# Altium integrated library TI Amplifiers and Linear Special Function Amplifier.IntLib: 708 symbols (part 37 of 47)
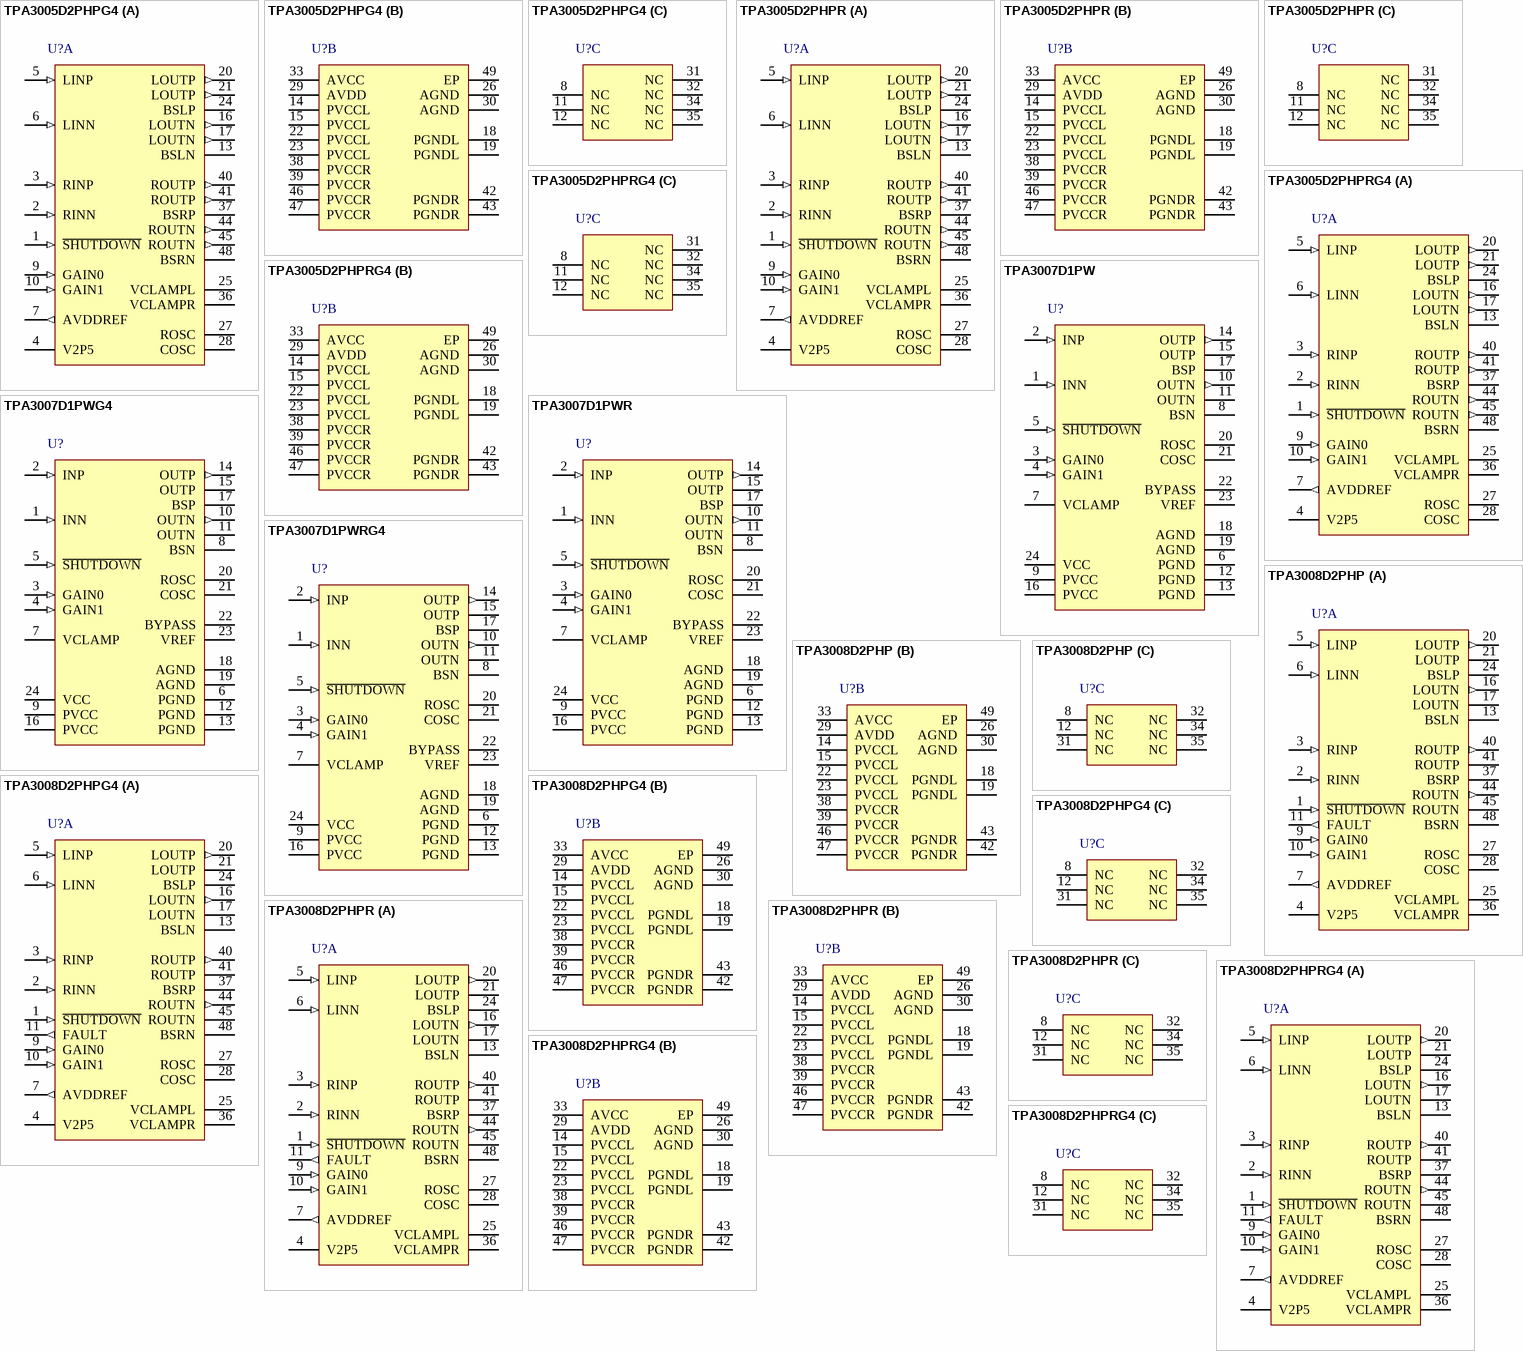
[diagram p75: symbols TPA3005D2PHPG4 to TPA3008D2PHPRG4]

## TPA3008D2PHPG4
designator U?
10 W Stereo Class-D Audio Power Amplifier, -40 to 85 degC, 48-pin QFP (PHP48), Green (RoHS & no Sb/Br); Manufacturer: Texas Instruments; PartNumber: TPA3008D2PHPG4; Analog Supply Max [V]: 18; Analog Supply Min [V]: 8.5; Input Type: Analog; Max. Number of Speaker Outputs: 2; SubFamily: Mid/High-Power Amplifier; DatasheetVersion: SLOS435C; PackageVersion: 4146927/B, 08/2003; PackageReference: PHP48-4385X4385TP; PackageDescription: 48-Pin PowerPAD(TM) Plastic Quad Flatpack, Body 7 x 7 mm, Pitch 0.5 mm; Supplier 1: Digi-Key; Supplier Part Number 1: TPA3008D2PHPG4-ND; Supplier 2: Newark; Supplier Part Number 2: 54K1486; Supplier 3: Mouser; Supplier Part Number 3: 595-TPA3008D2PHPG4; Eco-Plan: Green (RoHS & no Sb/Br); Power Stage Supply Min(V): 8.5; Mounting Technology: Surface Mount; Code_JEDEC: MS-026; ComponentLink1Description: Manufacturer URL; ComponentLink1URL: http://www.ti.com/; ComponentLink2Description: Datasheet; ComponentLink2URL: http://www.ti.com/general/docs/lit/getliterature.tsp?genericPartNumber=TPA3008D2&fileType=pdf; ComponentLink3Description: Package Specification; ComponentLink3URL: http://www.ti.com/litv/pdf/mpdi001b
footprint TI-PHP48-4385X4385TP_N (QFP, 48-Leads, Body 7x7mm, Pitch 0.5mm, Thermal Pad 4.9x4.9mm, IPC Medium Density)
footprint TI-PHP48-4385X4385TP_L (QFP, 48-Leads, Body 7x7mm, Pitch 0.5mm, Thermal Pad 4.9x4.9mm, IPC High Density)
footprint TI-PHP48-4385X4385TP_M (QFP, 48-Leads, Body 7x7mm, Pitch 0.5mm, Thermal Pad 4.9x4.9mm, IPC Low Density)
part A pins: 1 ~{SHUTDOWN} (in) "Shutdown signal for IC (low = shutdown, high = operational). TTL logic levels with compliance to VCC.", 2 RINN (in) "Negative audio input for right channel", 3 RINP (in) "Positive audio input for right channel", 4 V2P5 "2.5-V Reference for analog cells.", 5 LINP (in) "Positive audio input for left channel", 6 LINN (in) "Negative audio input for left channel", 7 AVDDREF (out) "5-V Reference output-connect to gain setting resistor or directly to GAIN0, GAIN1.", 9 GAIN0 (in) "Gain select least significant bit. TTL logic levels with compliance to AVDD.", 10 GAIN1 (in) "Gain select most significant bit. TTL logic levels with compliance to AVDD.", 11 FAULT (out) "Short-circuit detect fault output. FAULT = high, short-circuit detected. F\A\U\L\T\ = low, normal operation. Status is reset when power is cycled or S\H\U\T\D\O\W\N\ is cycled.", 13 BSLN "Bootstrap I/O for left channel, negative high-side FET", 16 LOUTN (out) "Class-D 1/2-H-bridge negative output for left channel", 17 LOUTN "Class-D 1/2-H-bridge negative output for left channel", 20 LOUTP (out) "Class-D 1/2-H-bridge positive output for left channel", 21 LOUTP "Class-D 1/2-H-bridge positive output for left channel", 24 BSLP "Bootstrap I/O for left channel, positive high-side FET", 25 VCLAMPL "Internally generated voltage supply for left channel bootstrap capacitors.", 27 ROSC "I/O current setting resistor for ramp generator.", 28 COSC "I/O for charge/discharging currents onto capacitor for ramp generator.", 36 VCLAMPR "Internally generated voltage supply for right channel bootstrap capacitors.", 37 BSRP "Bootstrap I/O for right channel, positive high-side FET", 40 ROUTP (out) "Class-D 1/2-H-bridge positive output for right channel", 41 ROUTP "Class-D 1/2-H-bridge positive output for right channel", 44 ROUTN (out) "Class-D 1/2-H-bridge negative output for right channel", 45 ROUTN "Class-D 1/2-H-bridge negative output for right channel", 48 BSRN "Bootstrap I/O for right channel, negative high-side FET"
part B pins: 14 PVCCL (power) "Power supply for left channel H-bridge (internally connected to pins 22 and 23), not connected to PVCCR or AVCC.", 15 PVCCL (power) "Power supply for left channel H-bridge (internally connected to pins 22 and 23), not connected to PVCCR or AVCC.", 18 PGNDL (power) "Power ground for left channel H-bridge", 19 PGNDL (power) "Power ground for left channel H-bridge", 22 PVCCL (power) "Power supply for left channel H-bridge (internally connected to pins 14 and 15), not connected to PVCCR or AVCC.", 23 PVCCL (power) "Power supply for left channel H-bridge (internally connected to pins 14 and 15), not connected to PVCCR or AVCC.", 26 AGND (power) "Analog ground for digital/analog cells in core", 29 AVDD (power) "5-V Regulated output for use by internal cells and GAIN0, GAIN1 pins only. Not specified for driving other external circuitry.", 30 AGND (power) "Analog ground for digital/analog cells in core", 33 AVCC (power) "High-voltage analog power supply, not connected internally to PVCCR or PVCCL", 38 PVCCR (power) "Power supply for right channel H-bridge (internally connected to pins 46 and 47), not connected to PVCCL or AVCC.", 39 PVCCR (power) "Power supply for right channel H-bridge (internally connected to pins 46 and 47), not connected to PVCCL or AVCC.", 42 PGNDR (power) "Power ground for right channel H-bridge", 43 PGNDR (power) "Power ground for right channel H-bridge", 46 PVCCR (power) "Power supply for right channel H-bridge (internally connected to pins 38 and 39), not connected to PVCCL or AVCC.", 47 PVCCR (power) "Power supply for right channel H-bridge (internally connected to pins 38 and 39), not connected to PVCCL or AVCC.", 49 EP (power) "Connect to AGND and PGND-should be the center point for both grounds. Internal resistive connection to AGND."
part C pins: 8 NC "No internal connection", 12 NC "No internal connection", 31 NC "No internal connection", 32 NC "No internal connection", 34 NC "No internal connection", 35 NC "No internal connection"

## TPA3008D2PHPR
designator U?
10 W Stereo Class-D Audio Power Amplifier, -40 to 85 degC, 48-pin QFP (PHP48), Green (RoHS & no Sb/Br); Manufacturer: Texas Instruments; PartNumber: TPA3008D2PHPR; Analog Supply Max [V]: 18; Analog Supply Min [V]: 8.5; Input Type: Analog; Max. Number of Speaker Outputs: 2; SubFamily: Mid/High-Power Amplifier; DatasheetVersion: SLOS435C; PackageVersion: 4146927/B, 08/2003; PackageReference: PHP48-4385X4385TP; PackageDescription: 48-Pin PowerPAD(TM) Plastic Quad Flatpack, Body 7 x 7 mm, Pitch 0.5 mm; Supplier 1: Digi-Key; Supplier Part Number 1: TPA3008D2PHPR-ND; Supplier 2: Mouser; Supplier Part Number 2: 595-TPA3008D2PHPR; Eco-Plan: Green (RoHS & no Sb/Br); Power Stage Supply Min(V): 8.5; Mounting Technology: Surface Mount; Code_JEDEC: MS-026; ComponentLink1Description: Manufacturer URL; ComponentLink1URL: http://www.ti.com/; ComponentLink2Description: Datasheet; ComponentLink2URL: http://www.ti.com/general/docs/lit/getliterature.tsp?genericPartNumber=TPA3008D2&fileType=pdf; ComponentLink3Description: Package Specification; ComponentLink3URL: http://www.ti.com/litv/pdf/mpdi001b
footprint TI-PHP48-4385X4385TP_N (QFP, 48-Leads, Body 7x7mm, Pitch 0.5mm, Thermal Pad 4.9x4.9mm, IPC Medium Density)
footprint TI-PHP48-4385X4385TP_L (QFP, 48-Leads, Body 7x7mm, Pitch 0.5mm, Thermal Pad 4.9x4.9mm, IPC High Density)
footprint TI-PHP48-4385X4385TP_M (QFP, 48-Leads, Body 7x7mm, Pitch 0.5mm, Thermal Pad 4.9x4.9mm, IPC Low Density)
part A pins: 1 ~{SHUTDOWN} (in) "Shutdown signal for IC (low = shutdown, high = operational). TTL logic levels with compliance to VCC.", 2 RINN (in) "Negative audio input for right channel", 3 RINP (in) "Positive audio input for right channel", 4 V2P5 "2.5-V Reference for analog cells.", 5 LINP (in) "Positive audio input for left channel", 6 LINN (in) "Negative audio input for left channel", 7 AVDDREF (out) "5-V Reference output-connect to gain setting resistor or directly to GAIN0, GAIN1.", 9 GAIN0 (in) "Gain select least significant bit. TTL logic levels with compliance to AVDD.", 10 GAIN1 (in) "Gain select most significant bit. TTL logic levels with compliance to AVDD.", 11 FAULT (out) "Short-circuit detect fault output. FAULT = high, short-circuit detected. F\A\U\L\T\ = low, normal operation. Status is reset when power is cycled or S\H\U\T\D\O\W\N\ is cycled.", 13 BSLN "Bootstrap I/O for left channel, negative high-side FET", 16 LOUTN (out) "Class-D 1/2-H-bridge negative output for left channel", 17 LOUTN "Class-D 1/2-H-bridge negative output for left channel", 20 LOUTP (out) "Class-D 1/2-H-bridge positive output for left channel", 21 LOUTP "Class-D 1/2-H-bridge positive output for left channel", 24 BSLP "Bootstrap I/O for left channel, positive high-side FET", 25 VCLAMPL "Internally generated voltage supply for left channel bootstrap capacitors.", 27 ROSC "I/O current setting resistor for ramp generator.", 28 COSC "I/O for charge/discharging currents onto capacitor for ramp generator.", 36 VCLAMPR "Internally generated voltage supply for right channel bootstrap capacitors.", 37 BSRP "Bootstrap I/O for right channel, positive high-side FET", 40 ROUTP (out) "Class-D 1/2-H-bridge positive output for right channel", 41 ROUTP "Class-D 1/2-H-bridge positive output for right channel", 44 ROUTN (out) "Class-D 1/2-H-bridge negative output for right channel", 45 ROUTN "Class-D 1/2-H-bridge negative output for right channel", 48 BSRN "Bootstrap I/O for right channel, negative high-side FET"
part B pins: 14 PVCCL (power) "Power supply for left channel H-bridge (internally connected to pins 22 and 23), not connected to PVCCR or AVCC.", 15 PVCCL (power) "Power supply for left channel H-bridge (internally connected to pins 22 and 23), not connected to PVCCR or AVCC.", 18 PGNDL (power) "Power ground for left channel H-bridge", 19 PGNDL (power) "Power ground for left channel H-bridge", 22 PVCCL (power) "Power supply for left channel H-bridge (internally connected to pins 14 and 15), not connected to PVCCR or AVCC.", 23 PVCCL (power) "Power supply for left channel H-bridge (internally connected to pins 14 and 15), not connected to PVCCR or AVCC.", 26 AGND (power) "Analog ground for digital/analog cells in core", 29 AVDD (power) "5-V Regulated output for use by internal cells and GAIN0, GAIN1 pins only. Not specified for driving other external circuitry.", 30 AGND (power) "Analog ground for digital/analog cells in core", 33 AVCC (power) "High-voltage analog power supply, not connected internally to PVCCR or PVCCL", 38 PVCCR (power) "Power supply for right channel H-bridge (internally connected to pins 46 and 47), not connected to PVCCL or AVCC.", 39 PVCCR (power) "Power supply for right channel H-bridge (internally connected to pins 46 and 47), not connected to PVCCL or AVCC.", 42 PGNDR (power) "Power ground for right channel H-bridge", 43 PGNDR (power) "Power ground for right channel H-bridge", 46 PVCCR (power) "Power supply for right channel H-bridge (internally connected to pins 38 and 39), not connected to PVCCL or AVCC.", 47 PVCCR (power) "Power supply for right channel H-bridge (internally connected to pins 38 and 39), not connected to PVCCL or AVCC.", 49 EP (power) "Connect to AGND and PGND-should be the center point for both grounds. Internal resistive connection to AGND."
part C pins: 8 NC "No internal connection", 12 NC "No internal connection", 31 NC "No internal connection", 32 NC "No internal connection", 34 NC "No internal connection", 35 NC "No internal connection"

## TPA3008D2PHPRG4
designator U?
10 W Stereo Class-D Audio Power Amplifier, -40 to 85 degC, 48-pin QFP (PHP48), Green (RoHS & no Sb/Br); Manufacturer: Texas Instruments; PartNumber: TPA3008D2PHPRG4; Analog Supply Max [V]: 18; Analog Supply Min [V]: 8.5; Input Type: Analog; Max. Number of Speaker Outputs: 2; SubFamily: Mid/High-Power Amplifier; DatasheetVersion: SLOS435C; PackageVersion: 4146927/B, 08/2003; PackageReference: PHP48-4385X4385TP; PackageDescription: 48-Pin PowerPAD(TM) Plastic Quad Flatpack, Body 7 x 7 mm, Pitch 0.5 mm; Supplier 1: Digi-Key; Supplier Part Number 1: TPA3008D2PHPRG4-ND; Supplier 2: Newark; Supplier Part Number 2: 71J8059; Supplier 3: Mouser; Supplier Part Number 3: 595-TPA3008D2PHPRG4; Eco-Plan: Green (RoHS & no Sb/Br); Power Stage Supply Min(V): 8.5; Mounting Technology: Surface Mount; Code_JEDEC: MS-026; ComponentLink1Description: Manufacturer URL; ComponentLink1URL: http://www.ti.com/; ComponentLink2Description: Datasheet; ComponentLink2URL: http://www.ti.com/general/docs/lit/getliterature.tsp?genericPartNumber=TPA3008D2&fileType=pdf; ComponentLink3Description: Package Specification; ComponentLink3URL: http://www.ti.com/litv/pdf/mpdi001b
footprint TI-PHP48-4385X4385TP_N (QFP, 48-Leads, Body 7x7mm, Pitch 0.5mm, Thermal Pad 4.9x4.9mm, IPC Medium Density)
footprint TI-PHP48-4385X4385TP_L (QFP, 48-Leads, Body 7x7mm, Pitch 0.5mm, Thermal Pad 4.9x4.9mm, IPC High Density)
footprint TI-PHP48-4385X4385TP_M (QFP, 48-Leads, Body 7x7mm, Pitch 0.5mm, Thermal Pad 4.9x4.9mm, IPC Low Density)
part A pins: 1 ~{SHUTDOWN} (in) "Shutdown signal for IC (low = shutdown, high = operational). TTL logic levels with compliance to VCC.", 2 RINN (in) "Negative audio input for right channel", 3 RINP (in) "Positive audio input for right channel", 4 V2P5 "2.5-V Reference for analog cells.", 5 LINP (in) "Positive audio input for left channel", 6 LINN (in) "Negative audio input for left channel", 7 AVDDREF (out) "5-V Reference output-connect to gain setting resistor or directly to GAIN0, GAIN1.", 9 GAIN0 (in) "Gain select least significant bit. TTL logic levels with compliance to AVDD.", 10 GAIN1 (in) "Gain select most significant bit. TTL logic levels with compliance to AVDD.", 11 FAULT (out) "Short-circuit detect fault output. FAULT = high, short-circuit detected. F\A\U\L\T\ = low, normal operation. Status is reset when power is cycled or S\H\U\T\D\O\W\N\ is cycled.", 13 BSLN "Bootstrap I/O for left channel, negative high-side FET", 16 LOUTN (out) "Class-D 1/2-H-bridge negative output for left channel", 17 LOUTN "Class-D 1/2-H-bridge negative output for left channel", 20 LOUTP (out) "Class-D 1/2-H-bridge positive output for left channel", 21 LOUTP "Class-D 1/2-H-bridge positive output for left channel", 24 BSLP "Bootstrap I/O for left channel, positive high-side FET", 25 VCLAMPL "Internally generated voltage supply for left channel bootstrap capacitors.", 27 ROSC "I/O current setting resistor for ramp generator.", 28 COSC "I/O for charge/discharging currents onto capacitor for ramp generator.", 36 VCLAMPR "Internally generated voltage supply for right channel bootstrap capacitors.", 37 BSRP "Bootstrap I/O for right channel, positive high-side FET", 40 ROUTP (out) "Class-D 1/2-H-bridge positive output for right channel", 41 ROUTP "Class-D 1/2-H-bridge positive output for right channel", 44 ROUTN (out) "Class-D 1/2-H-bridge negative output for right channel", 45 ROUTN "Class-D 1/2-H-bridge negative output for right channel", 48 BSRN "Bootstrap I/O for right channel, negative high-side FET"
part B pins: 14 PVCCL (power) "Power supply for left channel H-bridge (internally connected to pins 22 and 23), not connected to PVCCR or AVCC.", 15 PVCCL (power) "Power supply for left channel H-bridge (internally connected to pins 22 and 23), not connected to PVCCR or AVCC.", 18 PGNDL (power) "Power ground for left channel H-bridge", 19 PGNDL (power) "Power ground for left channel H-bridge", 22 PVCCL (power) "Power supply for left channel H-bridge (internally connected to pins 14 and 15), not connected to PVCCR or AVCC.", 23 PVCCL (power) "Power supply for left channel H-bridge (internally connected to pins 14 and 15), not connected to PVCCR or AVCC.", 26 AGND (power) "Analog ground for digital/analog cells in core", 29 AVDD (power) "5-V Regulated output for use by internal cells and GAIN0, GAIN1 pins only. Not specified for driving other external circuitry.", 30 AGND (power) "Analog ground for digital/analog cells in core", 33 AVCC (power) "High-voltage analog power supply, not connected internally to PVCCR or PVCCL", 38 PVCCR (power) "Power supply for right channel H-bridge (internally connected to pins 46 and 47), not connected to PVCCL or AVCC.", 39 PVCCR (power) "Power supply for right channel H-bridge (internally connected to pins 46 and 47), not connected to PVCCL or AVCC.", 42 PGNDR (power) "Power ground for right channel H-bridge", 43 PGNDR (power) "Power ground for right channel H-bridge", 46 PVCCR (power) "Power supply for right channel H-bridge (internally connected to pins 38 and 39), not connected to PVCCL or AVCC.", 47 PVCCR (power) "Power supply for right channel H-bridge (internally connected to pins 38 and 39), not connected to PVCCL or AVCC.", 49 EP (power) "Connect to AGND and PGND-should be the center point for both grounds. Internal resistive connection to AGND."
part C pins: 8 NC "No internal connection", 12 NC "No internal connection", 31 NC "No internal connection", 32 NC "No internal connection", 34 NC "No internal connection", 35 NC "No internal connection"

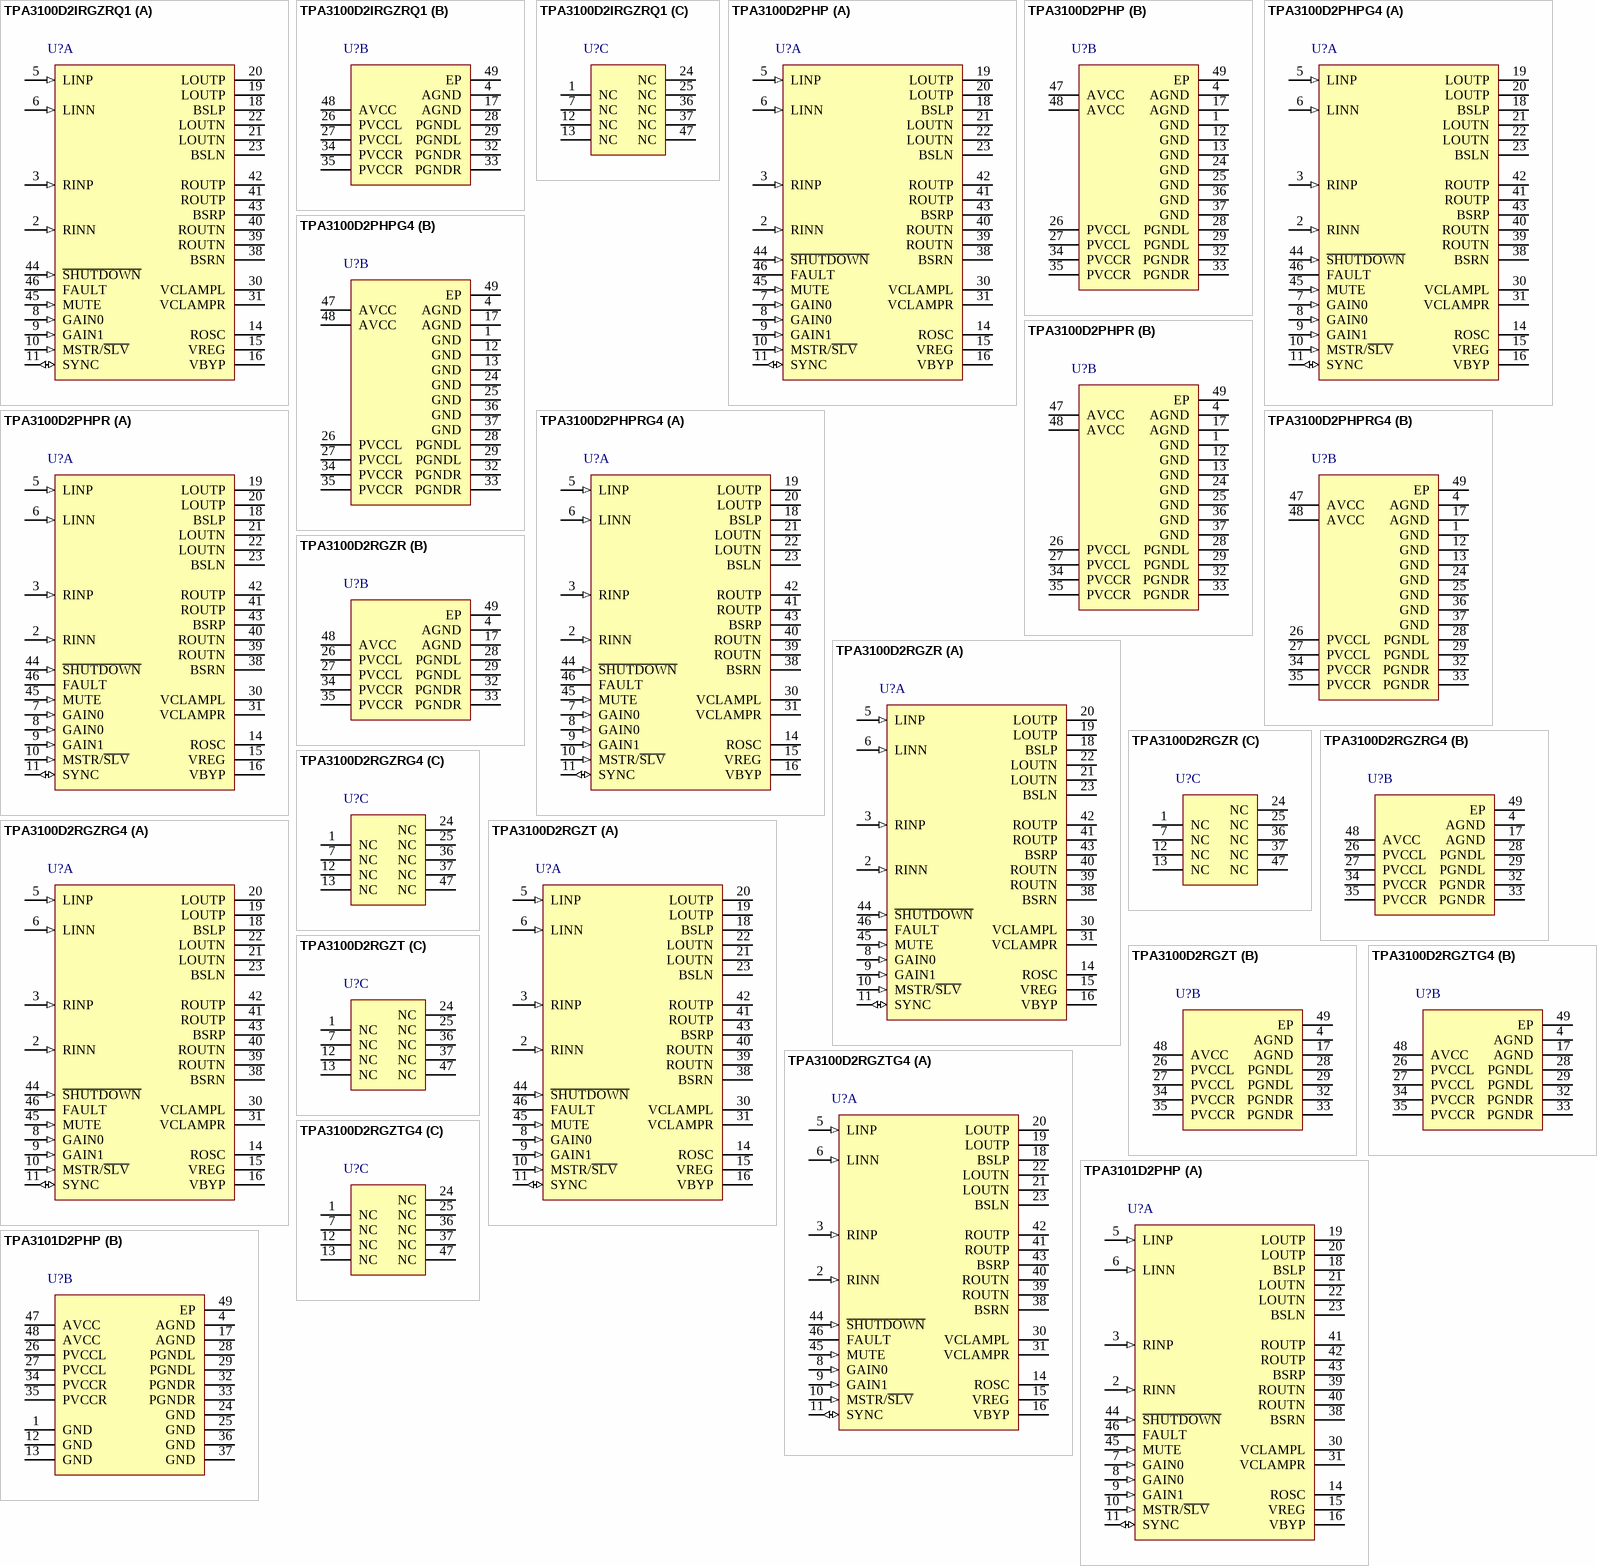
[diagram p32: symbols TPA3100D2IRGZRQ1 to TPA3101D2PHP]

## TPA3100D2IRGZRQ1
designator U?
Automotive Catalog 20 W Stereo Class-D Audio Power Amplifier, -40 to 85 degC, 48-pin QFN (RGZ48), Green (RoHS & no Sb/Br); Manufacturer: Texas Instruments; PartNumber: TPA3100D2IRGZRQ1; Analog Supply Max [V]: 26; Analog Supply Min [V]: 10; Input Type: Analog; Max. Number of Speaker Outputs: 2; SubFamily: Mid/High-Power Amplifier; DatasheetVersion: SLOS557; PackageVersion: 4204101/F, 06/2011; PackageReference: RGZ48-5150X5150TP; PackageDescription: 48-Pin Plastic Flat Pack, Body 7 x 7 mm, Pitch 0.5 mm; Supplier 1: Digi-Key; Supplier Part Number 1: 296-24154-2-ND; Supplier 2: Digi-Key; Supplier Part Number 2: 296-24154-1-ND; Supplier 3: Digi-Key; Supplier Part Number 3: 296-24154-6-ND; Supplier 4: Mouser; Supplier Part Number 4: 595-TPA3100D2IRGZRQ1; Eco-Plan: Green (RoHS & no Sb/Br); Power Stage Supply Min(V): 10; Mounting Technology: Surface Mount; Code_JEDEC: MO-220; ComponentLink1Description: Manufacturer URL; ComponentLink1URL: http://www.ti.com/; ComponentLink2Description: Datasheet; ComponentLink2URL: http://www.ti.com/general/docs/lit/getliterature.tsp?genericPartNumber=TPA3100D2-Q1&fileType=pdf; ComponentLink3Description: Package Specification; ComponentLink3URL: http://www.ti.com/lit/ml/mpqf123e/mpqf123e.pdf
footprint TI-RGZ48-5150X5150TP_V (QFN, 48-Leads, Body 7x7mm, Pitch 0.5mm, Thermal Pad 5.15x5.15mm, TI Recommended)
part A pins: 2 RINN (in) "Negative audio input for right channel. Biased at VREG/2.", 3 RINP (in) "Positive audio input for right channel. Biased at VREG/2.", 5 LINP (in) "Positive audio input for left channel. Biased at VREG/2.", 6 LINN (in) "Negative audio input for left channel. Biased at VREG/2.", 8 GAIN0 (in) "Gain select least significant bit. TTL logic levels with compliance to VREG.", 9 GAIN1 (in) "Gain select most significant bit. TTL logic levels with compliance to VREG.", 10 MSTR/~{SLV} (in) "Master/Slave select for determining direction of SYNC terminal. HIGH=Master mode, SYNC terminal is an output; LOW = slave mode, SYNC terminal accepts a clock input. TTL logic levels with compliance to VREG.", 11 SYNC (io) "Clock input/output for synchronizing multiple class-D devices. Direction determined by MSTR/S\L\V\ terminal. Input signal not to exceed VREG.", 14 ROSC "I/O for current setting resistor of ramp generator.", 15 VREG "4-V regulated output for use by internal cells, GAINx, MUTE, and MSTR/SLV pins only. Not specified for driving other external circuitry.", 16 VBYP "Reference for preamplifier. Nominally equal to 1.25 V. Also controls start-up time via external capacitor sizing.", 18 BSLP "Bootstrap I/O for left channel, positive high-side FET.", 19 LOUTP (hiz) "Class-D 1/2-H-bridge positive output for left channel.", 20 LOUTP (hiz) "Class-D 1/2-H-bridge positive output for left channel.", 21 LOUTN (hiz) "Class-D 1/2-H-bridge negative output for left channel.", 22 LOUTN (hiz) "Class-D 1/2-H-bridge negative output for left channel.", 23 BSLN "Bootstrap I/O for left channel, negative high-side FET.", 30 VCLAMPL "Internally generated voltage supply for left channel bootstrap capacitor.", 31 VCLAMPR "Internally generated voltage supply for right channel bootstrap capacitor.", 38 BSRN "Bootstrap I/O for right channel, negative high-side FET.", 39 ROUTN (hiz) "Class-D 1/2-H-bridge negative output for right channel.", 40 ROUTN (hiz) "Class-D 1/2-H-bridge negative output for right channel.", 41 ROUTP (hiz) "Class-D 1/2-H-bridge positive output for right channel.", 42 ROUTP (hiz) "Class-D 1/2-H-bridge positive output for right channel.", 43 BSRP "Bootstrap I/O for right channel, positive high-side FET.", 44 ~{SHUTDOWN} (in) "Shutdown signal for IC (LOW = disabled, HIGH = operational). TTL logic levels with compliance to AVCC.", 45 MUTE (in) "Mute signal for quick disable/enable of outputs (HIGH = outputs high-Z, LOW = outputs enabled). TTL logic levels with compliance to AVCC.", 46 FAULT (hiz) "TTL compatible output. HIGH = short-circuit fault. LOW = no fault. Only reports short-circuit faults. Thermal faults are not reported on this terminal."
part B pins: 4 AGND (power) "Analog ground for digital/analog cells in core.", 17 AGND (power) "Analog ground for digital/analog cells in core.", 26 PVCCL (power) "Power supply for left channel H-bridge, not internally connected to PVCCR or AVCC.", 27 PVCCL (power) "Power supply for left channel H-bridge, not internally connected to PVCCR or AVCC.", 28 PGNDL (power) "Power ground for left channel H-bridge.", 29 PGNDL (power) "Power ground for left channel H-bridge.", 32 PGNDR (power) "Power ground for right channel H-bridge.", 33 PGNDR (power) "Power ground for right channel H-bridge.", 34 PVCCR (power) "Power supply for right channel H-bridge, not connected to PVCCL or AVCC.", 35 PVCCR (power) "Power supply for right channel H-bridge, not connected to PVCCL or AVCC.", 48 AVCC (power) "High-voltage analog power supply. Not internally connected to PVCCR or PVCCL.", 49 EP (power) "Connect to AGND and PGND. Should be star point for both grounds. Internal resistive connection to AGND and PGND. Thermal vias on the PCB should connect this pad to a large copper area on an internal or bottom layer for the (See Datasheet)"
part C pins: 1 NC "No internal connection", 7 NC "No internal connection", 12 NC "No internal connection", 13 NC "No internal connection", 24 NC "No internal connection", 25 NC "No internal connection", 36 NC "No internal connection", 37 NC "No internal connection", 47 NC "No internal connection"

## TPA3100D2PHP
designator U?
20 W Stereo Class-D Audio Power Amplifier, -40 to 85 degC, 48-pin QFP (PHP48), Green (RoHS & no Sb/Br); Manufacturer: Texas Instruments; PartNumber: TPA3100D2PHP; Analog Supply Max [V]: 26; Analog Supply Min [V]: 10; Input Type: Analog; Max. Number of Speaker Outputs: 2; SubFamily: Mid/High-Power Amplifier; DatasheetVersion: SLOS469F; PackageVersion: 4146927/B, 08/2003; PackageReference: PHP48-4520X4520TP; PackageDescription: 48-Pin PowerPAD(TM) Plastic Quad Flatpack, Body 7 x 7 mm, Pitch 0.5 mm; Supplier 1: Digi-Key; Supplier Part Number 1: 296-26881-ND; Supplier 2: Farnell; Supplier Part Number 2: 1632094; Supplier 3: Newark; Supplier Part Number 3: 80K3361; Supplier 4: Mouser; Supplier Part Number 4: 595-TPA3100D2PHP; Eco-Plan: Green (RoHS & no Sb/Br); Power Stage Supply Min(V): 10; Mounting Technology: Surface Mount; Code_JEDEC: MS-026; ComponentLink1Description: Manufacturer URL; ComponentLink1URL: http://www.ti.com/; ComponentLink2Description: Datasheet; ComponentLink2URL: http://www.ti.com/general/docs/lit/getliterature.tsp?genericPartNumber=TPA3100D2&fileType=pdf; ComponentLink3Description: Package Specification; ComponentLink3URL: http://www.ti.com/litv/pdf/mpqf051a
footprint TI-PHP48-4520X4520TP_N (QFP, 48-Leads, Body 7x7mm, Pitch 0.5mm, Thermal Pad 5.14x5.14mm, IPC Medium Density)
footprint TI-PHP48-4520X4520TP_L (QFP, 48-Leads, Body 7x7mm, Pitch 0.5mm, Thermal Pad 5.14x5.14mm, IPC High Density)
footprint TI-PHP48-4520X4520TP_M (QFP, 48-Leads, Body 7x7mm, Pitch 0.5mm, Thermal Pad 5.14x5.14mm, IPC Low Density)
part A pins: 2 RINN (in) "Negative audio input for right channel. Biased at VREG/2.", 3 RINP (in) "Positive audio input for right channel. Biased at VREG/2.", 5 LINP (in) "Positive audio input for left channel. Biased at VREG/2.", 6 LINN (in) "Negative audio input for left channel. Biased at VREG/2.", 7 GAIN0 (in) "Gain select least significant bit. TTL logic levels with compliance to VREG.", 8 GAIN0 (in) "Gain select least significant bit. TTL logic levels with compliance to VREG.", 9 GAIN1 (in) "Gain select most significant bit. TTL logic levels with compliance to VREG.", 10 MSTR/~{SLV} (in) "Master/Slave select for determining direction of SYNC terminal. HIGH=Master mode, SYNC terminal is an output; LOW = slave mode, SYNC terminal accepts a clock input. TTL logic levels with compliance to VREG.", 11 SYNC (io) "Clock input/output for synchronizing multiple class-D devices. Direction determined by MSTR/S\L\V\ terminal. Input signal not to exceed VREG.", 14 ROSC "I/O for current setting resistor of ramp generator.", 15 VREG "4-V regulated output for use by internal cells, GAINx, MUTE, and MSTR/S\L\V\ pins only. Not specified for driving other external circuitry.", 16 VBYP "Reference for preamplifier. Nominally equal to 1.25 V. Also controls start-up time via external capacitor sizing.", 18 BSLP "Bootstrap I/O for left channel, positive high-side FET.", 19 LOUTP (hiz) "Class-D 1/2-H-bridge positive output for left channel.", 20 LOUTP (hiz) "Class-D 1/2-H-bridge positive output for left channel.", 21 LOUTN (hiz) "Class-D 1/2-H-bridge negative output for left channel.", 22 LOUTN (hiz) "Class-D 1/2-H-bridge negative output for left channel.", 23 BSLN "Bootstrap I/O for left channel, negative high-side FET.", 30 VCLAMPL "Internally generated voltage supply for left channel bootstrap capacitor.", 31 VCLAMPR "Internally generated voltage supply for right channel bootstrap capacitor.", 38 BSRN "Bootstrap I/O for right channel, negative high-side FET.", 39 ROUTN (hiz) "Class-D 1/2-H-bridge negative output for right channel.", 40 ROUTN (hiz) "Class-D 1/2-H-bridge negative output for right channel.", 41 ROUTP (hiz) "Class-D 1/2-H-bridge positive output for right channel.", 42 ROUTP (hiz) "Class-D 1/2-H-bridge positive output for right channel.", 43 BSRP "Bootstrap I/O for right channel, positive high-side FET.", 44 ~{SHUTDOWN} (in) "Shutdown signal for IC (LOW = disabled, HIGH = operational). TTL logic levels with compliance to AVCC.", 45 MUTE (in) "Mute signal for quick disable/enable of outputs (HIGH = outputs high-Z, LOW = outputs enabled). TTL logic levels with compliance to AVCC.", 46 FAULT (hiz) "TTL compatible output. HIGH = short-circuit fault. LOW = no fault. Only reports short-circuit faults. Thermal faults are not reported on this terminal."
part B pins: 1 GND (power) "Connect to the thermal pad.", 4 AGND (power) "Analog ground for digital/analog cells in core.", 12 GND (power) "Connect to the thermal pad.", 13 GND (power) "Connect to the thermal pad.", 17 AGND (power) "Analog ground for digital/analog cells in core.", 24 GND (power) "Connect to the thermal pad.", 25 GND (power) "Connect to the thermal pad.", 26 PVCCL (power) "Power supply for left channel H-bridge, not internally connected to PVCCR or AVCC.", 27 PVCCL (power) "Power supply for left channel H-bridge, not internally connected to PVCCR or AVCC.", 28 PGNDL (power) "Power ground for left channel H-bridge.", 29 PGNDL (power) "Power ground for left channel H-bridge.", 32 PGNDR (power) "Power ground for right channel H-bridge.", 33 PGNDR (power) "Power ground for right channel H-bridge.", 34 PVCCR (power) "Power supply for right channel H-bridge, not connected to PVCCL or AVCC.", 35 PVCCR (power) "Power supply for right channel H-bridge, not connected to PVCCL or AVCC.", 36 GND (power) "Connect to the thermal pad.", 37 GND (power) "Connect to the thermal pad.", 47 AVCC (power) "High-voltage analog power supply. Not internally connected to PVCCR or PVCCL.", 48 AVCC (power) "High-voltage analog power supply. Not internally connected to PVCCR or PVCCL.", 49 EP (power) "Connect to AGND and PGND. Should be star point for both grounds. Internal resistive connection to AGND and PGND. Thermal vias on the PCB should connect this pad to a large copper area on an internal or bottom layer for the (See Datasheet)"

## TPA3100D2PHPG4
designator U?
20 W Stereo Class-D Audio Power Amplifier, -40 to 85 degC, 48-pin QFP (PHP48), Green (RoHS & no Sb/Br); Manufacturer: Texas Instruments; PartNumber: TPA3100D2PHPG4; Analog Supply Max [V]: 26; Analog Supply Min [V]: 10; Input Type: Analog; Max. Number of Speaker Outputs: 2; SubFamily: Mid/High-Power Amplifier; DatasheetVersion: SLOS469F; PackageVersion: 4146927/B, 08/2003; PackageReference: PHP48-4520X4520TP; PackageDescription: 48-Pin PowerPAD(TM) Plastic Quad Flatpack, Body 7 x 7 mm, Pitch 0.5 mm; Supplier 1: Digi-Key; Supplier Part Number 1: TPA3100D2PHPG4-ND; Supplier 2: Mouser; Supplier Part Number 2: 595-TPA3100D2PHPG4; Eco-Plan: Green (RoHS & no Sb/Br); Power Stage Supply Min(V): 10; Mounting Technology: Surface Mount; Code_JEDEC: MS-026; ComponentLink1Description: Manufacturer URL; ComponentLink1URL: http://www.ti.com/; ComponentLink2Description: Datasheet; ComponentLink2URL: http://www.ti.com/general/docs/lit/getliterature.tsp?genericPartNumber=TPA3100D2&fileType=pdf; ComponentLink3Description: Package Specification; ComponentLink3URL: http://www.ti.com/litv/pdf/mpqf051a
footprint TI-PHP48-4520X4520TP_N (QFP, 48-Leads, Body 7x7mm, Pitch 0.5mm, Thermal Pad 5.14x5.14mm, IPC Medium Density)
footprint TI-PHP48-4520X4520TP_L (QFP, 48-Leads, Body 7x7mm, Pitch 0.5mm, Thermal Pad 5.14x5.14mm, IPC High Density)
footprint TI-PHP48-4520X4520TP_M (QFP, 48-Leads, Body 7x7mm, Pitch 0.5mm, Thermal Pad 5.14x5.14mm, IPC Low Density)
part A pins: 2 RINN (in) "Negative audio input for right channel. Biased at VREG/2.", 3 RINP (in) "Positive audio input for right channel. Biased at VREG/2.", 5 LINP (in) "Positive audio input for left channel. Biased at VREG/2.", 6 LINN (in) "Negative audio input for left channel. Biased at VREG/2.", 7 GAIN0 (in) "Gain select least significant bit. TTL logic levels with compliance to VREG.", 8 GAIN0 (in) "Gain select least significant bit. TTL logic levels with compliance to VREG.", 9 GAIN1 (in) "Gain select most significant bit. TTL logic levels with compliance to VREG.", 10 MSTR/~{SLV} (in) "Master/Slave select for determining direction of SYNC terminal. HIGH=Master mode, SYNC terminal is an output; LOW = slave mode, SYNC terminal accepts a clock input. TTL logic levels with compliance to VREG.", 11 SYNC (io) "Clock input/output for synchronizing multiple class-D devices. Direction determined by MSTR/S\L\V\ terminal. Input signal not to exceed VREG.", 14 ROSC "I/O for current setting resistor of ramp generator.", 15 VREG "4-V regulated output for use by internal cells, GAINx, MUTE, and MSTR/S\L\V\ pins only. Not specified for driving other external circuitry.", 16 VBYP "Reference for preamplifier. Nominally equal to 1.25 V. Also controls start-up time via external capacitor sizing.", 18 BSLP "Bootstrap I/O for left channel, positive high-side FET.", 19 LOUTP (hiz) "Class-D 1/2-H-bridge positive output for left channel.", 20 LOUTP (hiz) "Class-D 1/2-H-bridge positive output for left channel.", 21 LOUTN (hiz) "Class-D 1/2-H-bridge negative output for left channel.", 22 LOUTN (hiz) "Class-D 1/2-H-bridge negative output for left channel.", 23 BSLN "Bootstrap I/O for left channel, negative high-side FET.", 30 VCLAMPL "Internally generated voltage supply for left channel bootstrap capacitor.", 31 VCLAMPR "Internally generated voltage supply for right channel bootstrap capacitor.", 38 BSRN "Bootstrap I/O for right channel, negative high-side FET.", 39 ROUTN (hiz) "Class-D 1/2-H-bridge negative output for right channel.", 40 ROUTN (hiz) "Class-D 1/2-H-bridge negative output for right channel.", 41 ROUTP (hiz) "Class-D 1/2-H-bridge positive output for right channel.", 42 ROUTP (hiz) "Class-D 1/2-H-bridge positive output for right channel.", 43 BSRP "Bootstrap I/O for right channel, positive high-side FET.", 44 ~{SHUTDOWN} (in) "Shutdown signal for IC (LOW = disabled, HIGH = operational). TTL logic levels with compliance to AVCC.", 45 MUTE (in) "Mute signal for quick disable/enable of outputs (HIGH = outputs high-Z, LOW = outputs enabled). TTL logic levels with compliance to AVCC.", 46 FAULT (hiz) "TTL compatible output. HIGH = short-circuit fault. LOW = no fault. Only reports short-circuit faults. Thermal faults are not reported on this terminal."
part B pins: 1 GND (power) "Connect to the thermal pad.", 4 AGND (power) "Analog ground for digital/analog cells in core.", 12 GND (power) "Connect to the thermal pad.", 13 GND (power) "Connect to the thermal pad.", 17 AGND (power) "Analog ground for digital/analog cells in core.", 24 GND (power) "Connect to the thermal pad.", 25 GND (power) "Connect to the thermal pad.", 26 PVCCL (power) "Power supply for left channel H-bridge, not internally connected to PVCCR or AVCC.", 27 PVCCL (power) "Power supply for left channel H-bridge, not internally connected to PVCCR or AVCC.", 28 PGNDL (power) "Power ground for left channel H-bridge.", 29 PGNDL (power) "Power ground for left channel H-bridge.", 32 PGNDR (power) "Power ground for right channel H-bridge.", 33 PGNDR (power) "Power ground for right channel H-bridge.", 34 PVCCR (power) "Power supply for right channel H-bridge, not connected to PVCCL or AVCC.", 35 PVCCR (power) "Power supply for right channel H-bridge, not connected to PVCCL or AVCC.", 36 GND (power) "Connect to the thermal pad.", 37 GND (power) "Connect to the thermal pad.", 47 AVCC (power) "High-voltage analog power supply. Not internally connected to PVCCR or PVCCL.", 48 AVCC (power) "High-voltage analog power supply. Not internally connected to PVCCR or PVCCL.", 49 EP (power) "Connect to AGND and PGND. Should be star point for both grounds. Internal resistive connection to AGND and PGND. Thermal vias on the PCB should connect this pad to a large copper area on an internal or bottom layer for the (See Datasheet)"

## TPA3100D2PHPR
designator U?
20 W Stereo Class-D Audio Power Amplifier, -40 to 85 degC, 48-pin QFP (PHP48), Green (RoHS & no Sb/Br); Manufacturer: Texas Instruments; PartNumber: TPA3100D2PHPR; Analog Supply Max [V]: 26; Analog Supply Min [V]: 10; Input Type: Analog; Max. Number of Speaker Outputs: 2; SubFamily: Mid/High-Power Amplifier; DatasheetVersion: SLOS469F; PackageVersion: 4146927/B, 08/2003; PackageReference: PHP48-4520X4520TP; PackageDescription: 48-Pin PowerPAD(TM) Plastic Quad Flatpack, Body 7 x 7 mm, Pitch 0.5 mm; Supplier 1: Digi-Key; Supplier Part Number 1: 296-19603-2-ND; Supplier 2: Digi-Key; Supplier Part Number 2: 296-19603-1-ND; Supplier 3: Digi-Key; Supplier Part Number 3: 296-19603-6-ND; Supplier 4: Newark; Supplier Part Number 4: 75K1615; Supplier 5: Mouser; Supplier Part Number 5: 595-TPA3100D2PHPR; Eco-Plan: Green (RoHS & no Sb/Br); Power Stage Supply Min(V): 10; Mounting Technology: Surface Mount; Code_JEDEC: MS-026; ComponentLink1Description: Manufacturer URL; ComponentLink1URL: http://www.ti.com/; ComponentLink2Description: Datasheet; ComponentLink2URL: http://www.ti.com/general/docs/lit/getliterature.tsp?genericPartNumber=TPA3100D2&fileType=pdf; ComponentLink3Description: Package Specification; ComponentLink3URL: http://www.ti.com/litv/pdf/mpqf051a
footprint TI-PHP48-4520X4520TP_N (QFP, 48-Leads, Body 7x7mm, Pitch 0.5mm, Thermal Pad 5.14x5.14mm, IPC Medium Density)
footprint TI-PHP48-4520X4520TP_L (QFP, 48-Leads, Body 7x7mm, Pitch 0.5mm, Thermal Pad 5.14x5.14mm, IPC High Density)
footprint TI-PHP48-4520X4520TP_M (QFP, 48-Leads, Body 7x7mm, Pitch 0.5mm, Thermal Pad 5.14x5.14mm, IPC Low Density)
part A pins: 2 RINN (in) "Negative audio input for right channel. Biased at VREG/2.", 3 RINP (in) "Positive audio input for right channel. Biased at VREG/2.", 5 LINP (in) "Positive audio input for left channel. Biased at VREG/2.", 6 LINN (in) "Negative audio input for left channel. Biased at VREG/2.", 7 GAIN0 (in) "Gain select least significant bit. TTL logic levels with compliance to VREG.", 8 GAIN0 (in) "Gain select least significant bit. TTL logic levels with compliance to VREG.", 9 GAIN1 (in) "Gain select most significant bit. TTL logic levels with compliance to VREG.", 10 MSTR/~{SLV} (in) "Master/Slave select for determining direction of SYNC terminal. HIGH=Master mode, SYNC terminal is an output; LOW = slave mode, SYNC terminal accepts a clock input. TTL logic levels with compliance to VREG.", 11 SYNC (io) "Clock input/output for synchronizing multiple class-D devices. Direction determined by MSTR/S\L\V\ terminal. Input signal not to exceed VREG.", 14 ROSC "I/O for current setting resistor of ramp generator.", 15 VREG "4-V regulated output for use by internal cells, GAINx, MUTE, and MSTR/S\L\V\ pins only. Not specified for driving other external circuitry.", 16 VBYP "Reference for preamplifier. Nominally equal to 1.25 V. Also controls start-up time via external capacitor sizing.", 18 BSLP "Bootstrap I/O for left channel, positive high-side FET.", 19 LOUTP (hiz) "Class-D 1/2-H-bridge positive output for left channel.", 20 LOUTP (hiz) "Class-D 1/2-H-bridge positive output for left channel.", 21 LOUTN (hiz) "Class-D 1/2-H-bridge negative output for left channel.", 22 LOUTN (hiz) "Class-D 1/2-H-bridge negative output for left channel.", 23 BSLN "Bootstrap I/O for left channel, negative high-side FET.", 30 VCLAMPL "Internally generated voltage supply for left channel bootstrap capacitor.", 31 VCLAMPR "Internally generated voltage supply for right channel bootstrap capacitor.", 38 BSRN "Bootstrap I/O for right channel, negative high-side FET.", 39 ROUTN (hiz) "Class-D 1/2-H-bridge negative output for right channel.", 40 ROUTN (hiz) "Class-D 1/2-H-bridge negative output for right channel.", 41 ROUTP (hiz) "Class-D 1/2-H-bridge positive output for right channel.", 42 ROUTP (hiz) "Class-D 1/2-H-bridge positive output for right channel.", 43 BSRP "Bootstrap I/O for right channel, positive high-side FET.", 44 ~{SHUTDOWN} (in) "Shutdown signal for IC (LOW = disabled, HIGH = operational). TTL logic levels with compliance to AVCC.", 45 MUTE (in) "Mute signal for quick disable/enable of outputs (HIGH = outputs high-Z, LOW = outputs enabled). TTL logic levels with compliance to AVCC.", 46 FAULT (hiz) "TTL compatible output. HIGH = short-circuit fault. LOW = no fault. Only reports short-circuit faults. Thermal faults are not reported on this terminal."
part B pins: 1 GND (power) "Connect to the thermal pad.", 4 AGND (power) "Analog ground for digital/analog cells in core.", 12 GND (power) "Connect to the thermal pad.", 13 GND (power) "Connect to the thermal pad.", 17 AGND (power) "Analog ground for digital/analog cells in core.", 24 GND (power) "Connect to the thermal pad.", 25 GND (power) "Connect to the thermal pad.", 26 PVCCL (power) "Power supply for left channel H-bridge, not internally connected to PVCCR or AVCC.", 27 PVCCL (power) "Power supply for left channel H-bridge, not internally connected to PVCCR or AVCC.", 28 PGNDL (power) "Power ground for left channel H-bridge.", 29 PGNDL (power) "Power ground for left channel H-bridge.", 32 PGNDR (power) "Power ground for right channel H-bridge.", 33 PGNDR (power) "Power ground for right channel H-bridge.", 34 PVCCR (power) "Power supply for right channel H-bridge, not connected to PVCCL or AVCC.", 35 PVCCR (power) "Power supply for right channel H-bridge, not connected to PVCCL or AVCC.", 36 GND (power) "Connect to the thermal pad.", 37 GND (power) "Connect to the thermal pad.", 47 AVCC (power) "High-voltage analog power supply. Not internally connected to PVCCR or PVCCL.", 48 AVCC (power) "High-voltage analog power supply. Not internally connected to PVCCR or PVCCL.", 49 EP (power) "Connect to AGND and PGND. Should be star point for both grounds. Internal resistive connection to AGND and PGND. Thermal vias on the PCB should connect this pad to a large copper area on an internal or bottom layer for the (See Datasheet)"

## TPA3100D2PHPRG4
designator U?
20 W Stereo Class-D Audio Power Amplifier, -40 to 85 degC, 48-pin QFP (PHP48), Green (RoHS & no Sb/Br); Manufacturer: Texas Instruments; PartNumber: TPA3100D2PHPRG4; Analog Supply Max [V]: 26; Analog Supply Min [V]: 10; Input Type: Analog; Max. Number of Speaker Outputs: 2; SubFamily: Mid/High-Power Amplifier; DatasheetVersion: SLOS469F; PackageVersion: 4146927/B, 08/2003; PackageReference: PHP48-4520X4520TP; PackageDescription: 48-Pin PowerPAD(TM) Plastic Quad Flatpack, Body 7 x 7 mm, Pitch 0.5 mm; Supplier 1: Digi-Key; Supplier Part Number 1: TPA3100D2PHPRG4-ND; Supplier 2: Mouser; Supplier Part Number 2: 595-TPA3100D2PHPRG4; Eco-Plan: Green (RoHS & no Sb/Br); Power Stage Supply Min(V): 10; Mounting Technology: Surface Mount; Code_JEDEC: MS-026; ComponentLink1Description: Manufacturer URL; ComponentLink1URL: http://www.ti.com/; ComponentLink2Description: Datasheet; ComponentLink2URL: http://www.ti.com/general/docs/lit/getliterature.tsp?genericPartNumber=TPA3100D2&fileType=pdf; ComponentLink3Description: Package Specification; ComponentLink3URL: http://www.ti.com/litv/pdf/mpqf051a
footprint TI-PHP48-4520X4520TP_N (QFP, 48-Leads, Body 7x7mm, Pitch 0.5mm, Thermal Pad 5.14x5.14mm, IPC Medium Density)
footprint TI-PHP48-4520X4520TP_L (QFP, 48-Leads, Body 7x7mm, Pitch 0.5mm, Thermal Pad 5.14x5.14mm, IPC High Density)
footprint TI-PHP48-4520X4520TP_M (QFP, 48-Leads, Body 7x7mm, Pitch 0.5mm, Thermal Pad 5.14x5.14mm, IPC Low Density)
part A pins: 2 RINN (in) "Negative audio input for right channel. Biased at VREG/2.", 3 RINP (in) "Positive audio input for right channel. Biased at VREG/2.", 5 LINP (in) "Positive audio input for left channel. Biased at VREG/2.", 6 LINN (in) "Negative audio input for left channel. Biased at VREG/2.", 7 GAIN0 (in) "Gain select least significant bit. TTL logic levels with compliance to VREG.", 8 GAIN0 (in) "Gain select least significant bit. TTL logic levels with compliance to VREG.", 9 GAIN1 (in) "Gain select most significant bit. TTL logic levels with compliance to VREG.", 10 MSTR/~{SLV} (in) "Master/Slave select for determining direction of SYNC terminal. HIGH=Master mode, SYNC terminal is an output; LOW = slave mode, SYNC terminal accepts a clock input. TTL logic levels with compliance to VREG.", 11 SYNC (io) "Clock input/output for synchronizing multiple class-D devices. Direction determined by MSTR/S\L\V\ terminal. Input signal not to exceed VREG.", 14 ROSC "I/O for current setting resistor of ramp generator.", 15 VREG "4-V regulated output for use by internal cells, GAINx, MUTE, and MSTR/S\L\V\ pins only. Not specified for driving other external circuitry.", 16 VBYP "Reference for preamplifier. Nominally equal to 1.25 V. Also controls start-up time via external capacitor sizing.", 18 BSLP "Bootstrap I/O for left channel, positive high-side FET.", 19 LOUTP (hiz) "Class-D 1/2-H-bridge positive output for left channel.", 20 LOUTP (hiz) "Class-D 1/2-H-bridge positive output for left channel.", 21 LOUTN (hiz) "Class-D 1/2-H-bridge negative output for left channel.", 22 LOUTN (hiz) "Class-D 1/2-H-bridge negative output for left channel.", 23 BSLN "Bootstrap I/O for left channel, negative high-side FET.", 30 VCLAMPL "Internally generated voltage supply for left channel bootstrap capacitor.", 31 VCLAMPR "Internally generated voltage supply for right channel bootstrap capacitor.", 38 BSRN "Bootstrap I/O for right channel, negative high-side FET.", 39 ROUTN (hiz) "Class-D 1/2-H-bridge negative output for right channel.", 40 ROUTN (hiz) "Class-D 1/2-H-bridge negative output for right channel.", 41 ROUTP (hiz) "Class-D 1/2-H-bridge positive output for right channel.", 42 ROUTP (hiz) "Class-D 1/2-H-bridge positive output for right channel.", 43 BSRP "Bootstrap I/O for right channel, positive high-side FET.", 44 ~{SHUTDOWN} (in) "Shutdown signal for IC (LOW = disabled, HIGH = operational). TTL logic levels with compliance to AVCC.", 45 MUTE (in) "Mute signal for quick disable/enable of outputs (HIGH = outputs high-Z, LOW = outputs enabled). TTL logic levels with compliance to AVCC.", 46 FAULT (hiz) "TTL compatible output. HIGH = short-circuit fault. LOW = no fault. Only reports short-circuit faults. Thermal faults are not reported on this terminal."
part B pins: 1 GND (power) "Connect to the thermal pad.", 4 AGND (power) "Analog ground for digital/analog cells in core.", 12 GND (power) "Connect to the thermal pad.", 13 GND (power) "Connect to the thermal pad.", 17 AGND (power) "Analog ground for digital/analog cells in core.", 24 GND (power) "Connect to the thermal pad.", 25 GND (power) "Connect to the thermal pad.", 26 PVCCL (power) "Power supply for left channel H-bridge, not internally connected to PVCCR or AVCC.", 27 PVCCL (power) "Power supply for left channel H-bridge, not internally connected to PVCCR or AVCC.", 28 PGNDL (power) "Power ground for left channel H-bridge.", 29 PGNDL (power) "Power ground for left channel H-bridge.", 32 PGNDR (power) "Power ground for right channel H-bridge.", 33 PGNDR (power) "Power ground for right channel H-bridge.", 34 PVCCR (power) "Power supply for right channel H-bridge, not connected to PVCCL or AVCC.", 35 PVCCR (power) "Power supply for right channel H-bridge, not connected to PVCCL or AVCC.", 36 GND (power) "Connect to the thermal pad.", 37 GND (power) "Connect to the thermal pad.", 47 AVCC (power) "High-voltage analog power supply. Not internally connected to PVCCR or PVCCL.", 48 AVCC (power) "High-voltage analog power supply. Not internally connected to PVCCR or PVCCL.", 49 EP (power) "Connect to AGND and PGND. Should be star point for both grounds. Internal resistive connection to AGND and PGND. Thermal vias on the PCB should connect this pad to a large copper area on an internal or bottom layer for the (See Datasheet)"